# Altium footprint library SON.PcbLib: 6 footprints
Each footprint in its own frame and in the unit in brackets; x right, y up, seen from the top. Pads: shape width x height; smd on the part's side, far side on the other; paste and mask are expansions set on the pad; w line width, h text height; cw(c..) or ccw(c..) is an arc to the next point about the centre after c.
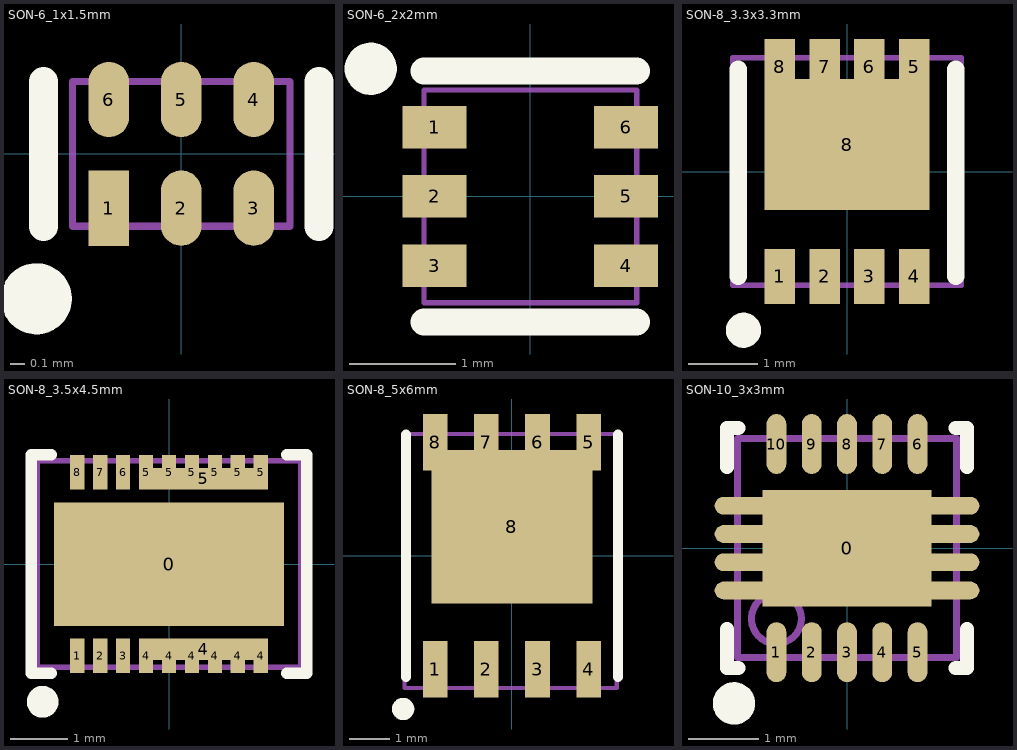
[diagram p0: the footprints below, top view; thin cyan lines are the x and y axes]

## SON-6_1x1.5mm [mm]
pads (6):
  rect 0.28x0.52 smd mask+0.051: 1(-0.5,-0.375)
  oval 0.28x0.52 smd mask+0.051: 2(0,-0.375) 3(0.5,-0.375) 4(0.5,0.375) 5(0,0.375) 6(-0.5,0.375)
Top Overlay:
  circle w0.25: c-1,-1 r0.12
  lines w0.2: -0.95,-0.5 -0.95,0.5 ; 0.95,-0.5 0.95,0.5
Mechanical 13:
  lines w0.05: -0.75,-0.5 -0.75,0.5 0.75,0.5 0.75,-0.5 -0.75,-0.5

## SON-6_2x2mm [mm]
pads (6):
  rect 0.6x0.4 smd mask+0.051: 1(-0.9,0.65) 2(-0.9,0) 3(-0.9,-0.65) 4(0.9,-0.65) 5(0.9,0) 6(0.9,0.65)
Top Overlay:
  circle w0.25: c-1.5,1.2 r0.12
  lines w0.254: -1,-1.18 1,-1.18 ; -1,1.18 1,1.18
Mechanical 1:
  lines w0.05: -1,-1 1,-1 ; -1,1 1,1
Mechanical 13:
  lines w0.05: -1,-1 1,-1 1,1 -1,1 -1,-1

## SON-8_3.3x3.3mm [mm]
pads (9):
  rect 0.44x0.8 smd mask+0.051: 1(-0.975,-1.52) 2(-0.325,-1.52) 3(0.325,-1.52) 4(0.975,-1.52) 5(0.975,1.52) 6(0.325,1.52) 7(-0.325,1.52) 8(-0.975,1.52)
  rect 2.39x1.9 smd mask+0.051: 8(0,0.39)
Top Overlay:
  circle w0.254: c-1.5,-2.3 r0.127
  lines w0.254: -1.575,-1.52 -1.575,1.48 ; 1.575,-1.52 1.575,1.48
Mechanical 13:
  lines w0.076: -1.655,-1.65 -1.655,1.65 1.655,1.65 1.655,-1.65 -1.655,-1.65

## SON-8_3.5x4.5mm [mm]
pads (21):
  rect 4x2.15 smd mask+0.051: 0(0,0)
  rect 0.25x0.6 smd mask+0.051: 1(-1.6,-1.6) 2(-1.2,-1.6) 3(-0.8,-1.6) 4(-0.4,-1.6) 4(0,-1.6) 4(0.4,-1.6) 4(0.8,-1.6) 4(1.2,-1.6) 4(1.6,-1.6) 5(-0.4,1.6) 5(0,1.6) 5(0.4,1.6) 5(0.8,1.6) 5(1.2,1.6) 5(1.6,1.6) 6(-0.8,1.6) 7(-1.2,1.6) 8(-1.6,1.6)
  rect 2.25x0.375 smd mask+0.051: 4(0.6,-1.487) 5(0.6,1.488)
Top Overlay:
  circle w0.305: c-2.2,-2.4 r0.125
  lines w0.2: -2.05,-1.9 -2.4,-1.9 -2.4,1.9 -2.05,1.9 ; 2.05,-1.9 2.4,-1.9 2.4,1.9 2.05,1.9
Mechanical 13:
  lines w0.1: -2.3,-1.8 -2.3,1.8 2.3,1.8 2.3,-1.8 -2.3,-1.8

## SON-8_5x6mm [mm]
pads (9):
  rect 0.61x1.4 smd: 1(-1.905,-2.816) 2(-0.635,-2.816) 3(0.635,-2.816) 4(1.905,-2.816) 5(1.905,2.816) 6(0.635,2.816) 7(-0.635,2.816) 8(-1.905,2.816)
  rect 4x3.81 smd: 8(0,0.716)
Top Overlay:
  circle w0.305: c-2.7,-3.8 r0.125
  lines w0.254: -2.63,-3 -2.63,3 ; 2.63,-3 2.63,3
Mechanical 13:
  lines w0.1: -2.66,-3.284 -2.66,3.016 2.6,3.016 2.6,-3.284 -2.66,-3.284

## SON-10_3x3mm [mm]
pads (19):
  rect 2.4x1.65 smd paste-0.825 mask+0.051: 0(0,0)
  oval 0.28x0.85 smd paste-0.025 mask+0.051: 1(-1,-1.475) 2(-0.5,-1.475) 3(0,-1.475) 4(0.5,-1.475) 5(1,-1.475) 6(1,1.475) 7(0.5,1.475) 8(0,1.475) 9(-0.5,1.475) 10(-1,1.475)
  oval 1x0.25 smd mask+0.051: ""(-1.375,-0.6) ""(-1.375,-0.2) ""(-1.375,0.2) ""(-1.375,0.6) ""(1.375,-0.6) ""(1.375,-0.2) ""(1.375,0.2) ""(1.375,0.6)
Top Overlay:
  circle w0.3: c-1.6,-2.2 r0.15
  lines w0.2: -1.7,-1.15 -1.7,-1.7 -1.54,-1.7 ; -1.7,1.15 -1.7,1.7 -1.54,1.7 ; 1.54,-1.7 1.7,-1.7 1.7,-1.15 ; 1.54,1.7 1.7,1.7 1.7,1.15
Top Paste:
  region: -0.55,0.6 -0.55,-0.6 0.5,-0.6 0.5,0.6
Mechanical 13:
  circle w0.1: c-1,-1 r0.354
  lines w0.1: -1.55,-1.55 -1.55,1.55 1.55,1.55 1.55,-1.55 -1.55,-1.55